# Altium footprint library Jamper.PcbLib: 1 footprints
Each footprint in its own frame and in the unit in brackets; x right, y up, seen from the top. Pads: shape width x height; smd on the part's side, far side on the other; paste and mask are expansions set on the pad; w line width, h text height; cw(c..) or ccw(c..) is an arc to the next point about the centre after c.
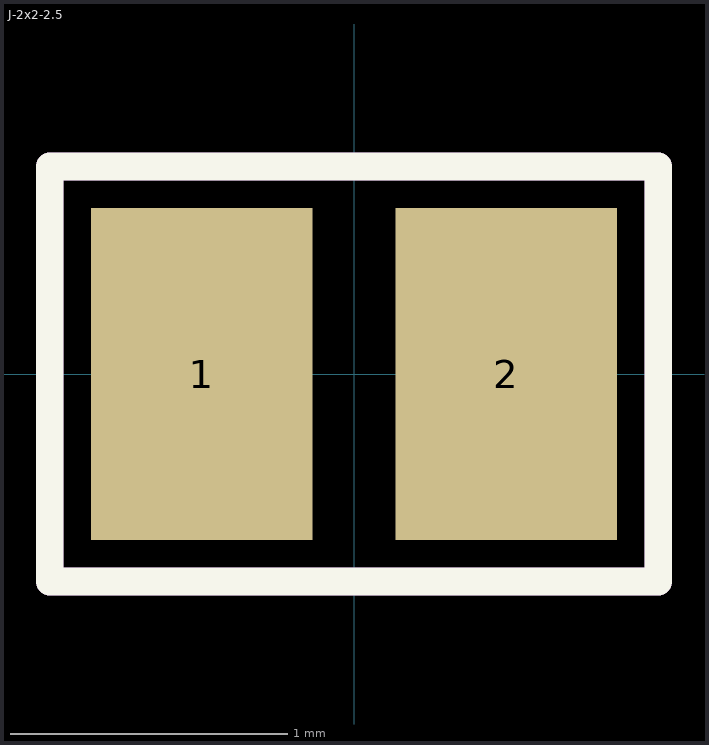
[diagram p0: the footprint, top view; thin cyan lines are the x and y axes]

## J-2x2-2.5 [mm]
pads (2):
  rect 0.8x1.2 smd: 1(-0.55,0) 2(0.55,0)
Top Overlay:
  lines w0.1: -1.1,-0.75 -1.1,0.75 1.1,0.75 1.1,-0.75 -1.1,-0.75
Board:
  lines w0.1: -1.1,-0.75 1.1,-0.75 1.1,0.75 -1.1,0.75 -1.1,-0.75
3D body "припой перемычка.stp": height 0.6, standoff 0, extent -0.8,-0.5 0.8,0.5